# Altium integrated library Analog Devices Data Converters Digital-to-Analog Converters.IntLib: 2231 symbols (part 74 of 181)
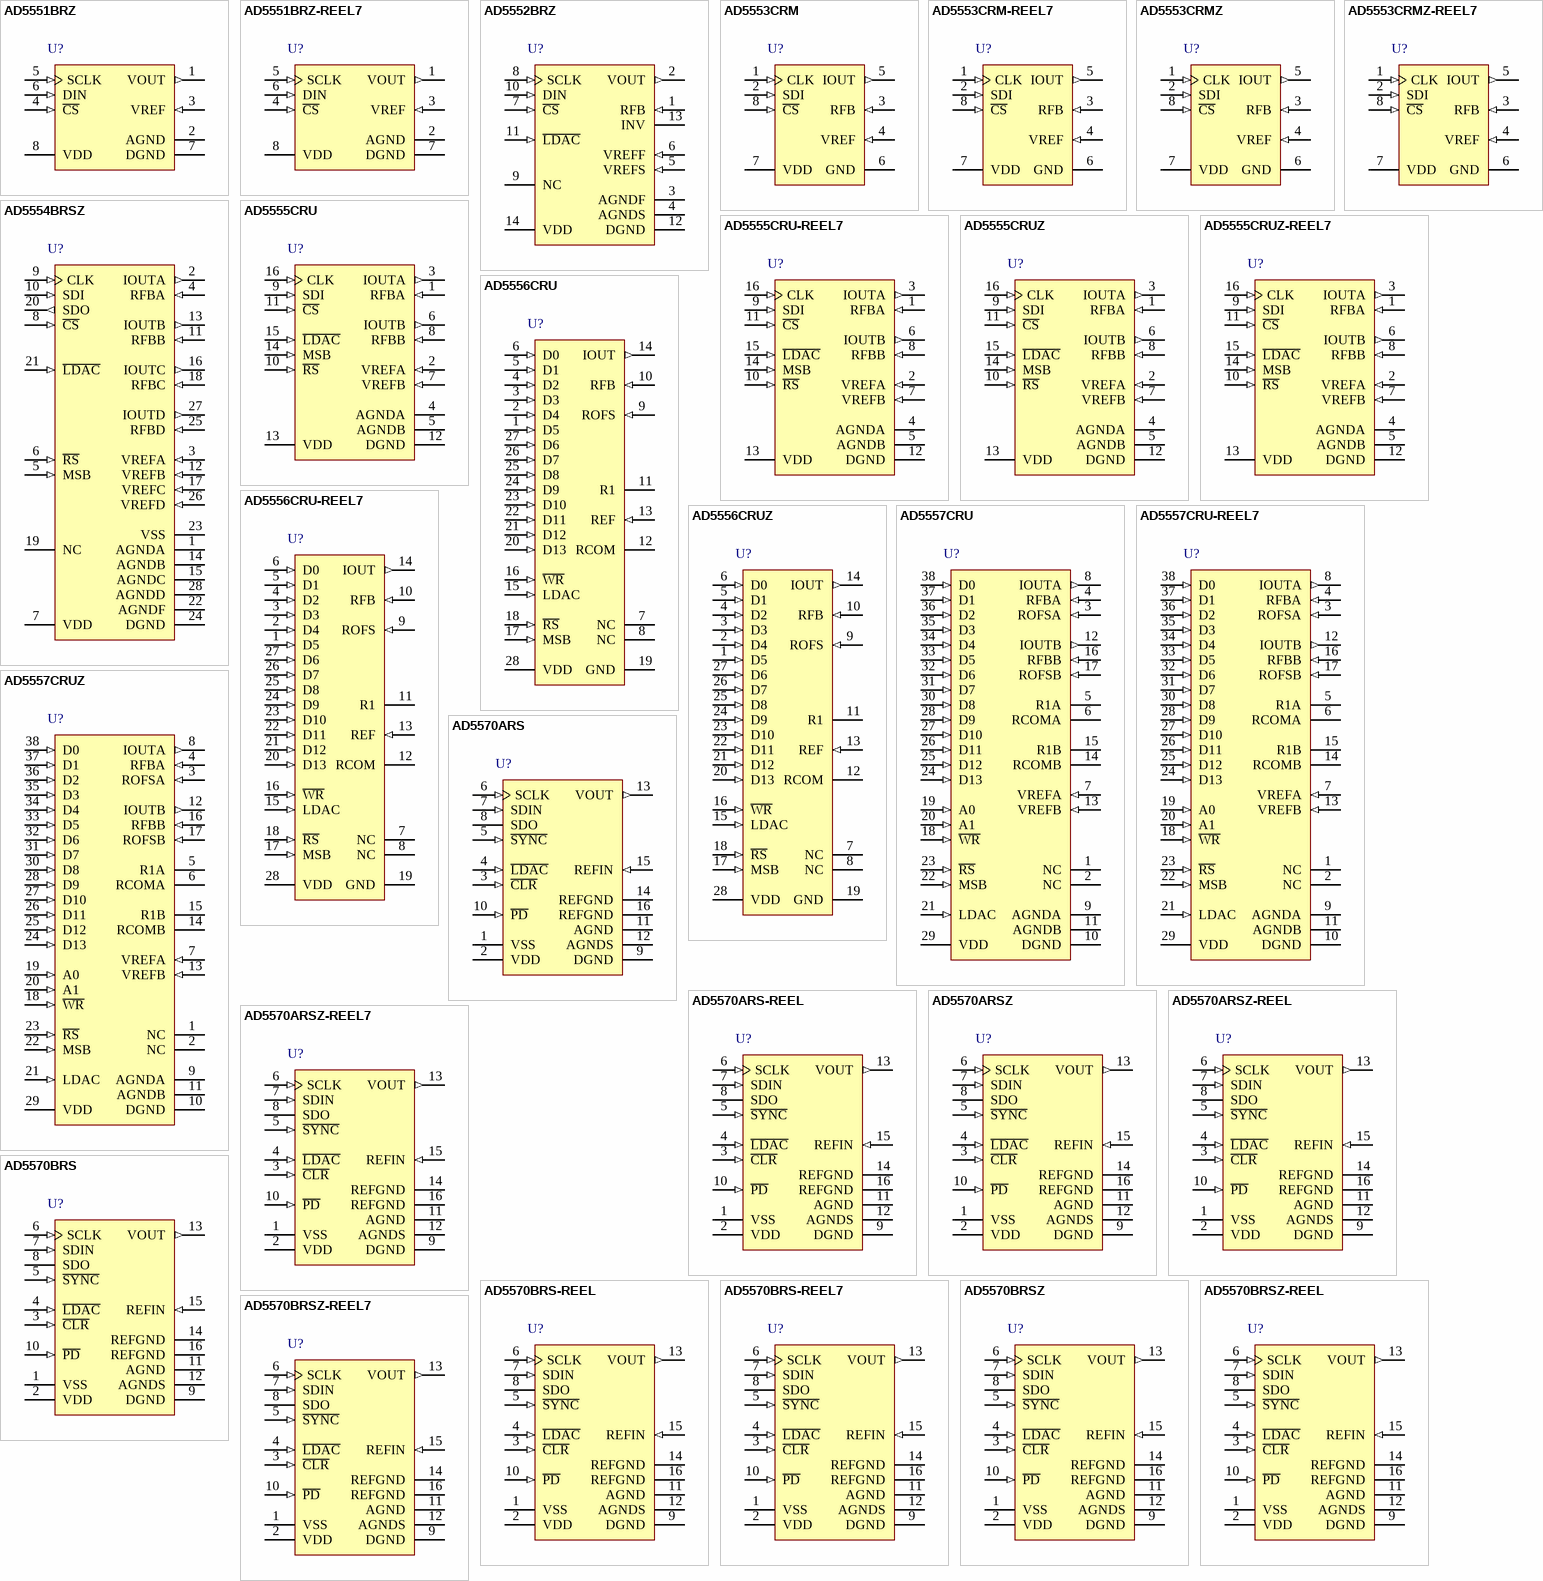
[diagram p187: symbols AD5551BRZ to AD5570BRSZ-REEL7]

## AD5552BRZ
designator U?
Single 14-Bit Digital-to-Analog Converter with Serial Interface, 2.7 to 5.5 V, -40 to +85 degC, R-14, Pb-Free, Tube; Generic Part Number: AD5552; Manufacturer: Analog Devices; PartNumber: AD5552BRZ; # DAC Outputs: 1; Max V+: 5.5V; Op Pwr Diss: 6.05mW; Resolution (Bits): 14; Settling Time: 1µs; Single Supply: Yes; DatasheetVersion: Rev.A; PackageVersion: 060606-A; PackageReference: R-14; PackageDescription: 14-Lead Standard Small Outline Package [SOIC_N]; Supplier 1: Digi-Key; Supplier Part Number 1: AD5552BRZ-ND; Supplier 2: Farnell; Supplier Part Number 2: 2305675; Supplier 3: Newark; Supplier Part Number 3: 84W7402; Supplier 4: Newark; Supplier Part Number 4: 59K4224; Supplier 5: Mouser; Supplier Part Number 5: 584-AD5552BRZ; Packing: Tube; RoHS: Y; Mounting Technology: Surface Mount; Code_JEDEC: MS-012-AB; Code_IPC: SOIC127P600-14; ComponentLink1Description: Manufacturer URL; ComponentLink1URL: http://www.analog.com/en/index.html; ComponentLink2Description: Datasheet; ComponentLink2URL: http://www.analog.com/static/imported-files/data_sheets/AD5551_5552.pdf; ComponentLink3Description: Package Specification; ComponentLink3URL: http://www.analog.com/static/imported-files/packages/PKG_PDF/SOIC_Narrow%20(R)/R_14.pdf; ComponentLink4Description: Product URL; ComponentLink4URL: http://www.analog.com/en/digital-to-analog-converters/da-converters/ad5552/products/product.html
footprint R-14_N (SOIC, 14-Leads, Body 8.7x3.9mm, Pitch 1.27mm, IPC Medium Density)
footprint R-14_L (SOIC, 14-Leads, Body 8.7x3.9mm, Pitch 1.27mm, IPC High Density)
footprint R-14_M (SOIC, 14-Leads, Body 8.7x3.9mm, Pitch 1.27mm, IPC Low Density)
pins: 1 RFB (in) "Feedback Resistor. In bipolar mode, connect this pin to external op amp output.", 2 VOUT (out) "Analog Output Voltage from the DAC.", 3 AGNDF (power) "Ground Reference Point for Analog Circuitry (Force).", 4 AGNDS (power) "Ground Reference Point for Analog Circuitry (Sense).", 5 VREFS (in) "This is the voltage reference input (sense) for the DAC. Connect to external reference ranges from 2 V to VDD.", 6 VREFF (in) "This is the voltage reference input (force) for the DAC. Connect to external reference ranges from 2 V to VDD.", 7 ~{CS} (in) "This is an active low-logic input signal. The chip select signal is used to frame the serial data input.", 8 SCLK (in) "Clock input. Data is clocked into the input register on the rising edge of SCLK. Duty cycle must be between 40%  and 60%.", 9 NC "No Connect.", 10 DIN (in) "Serial Data Input. This device accepts 14-bit words. Data is clocked into the input register on the rising edge of SCLK.", 11 ~{LDAC} (in) "L\D\A\C\ Input. When this input is taken low, the DAC register is simultaneously updated with the contents of the  input register.", 12 DGND (power) "Digital Ground. Ground reference for digital circuitry.", 13 INV "Connected to the internal scaling resistors of the DAC. Connect the INV pin to external op amps inverting input in  bipolar mode.", 14 VDD (power) "Analog Supply Voltage, 2.7 V to 5.5 V +/- 10%."

## AD5553CRM
designator U?
Single 14-Bit Current Output Digital-to-Analog Converter with Serial Interface, -40 to +85 degC, RM-8, Tube; Generic Part Number: AD5553; Manufacturer: Analog Devices; PartNumber: AD5553CRM; # DAC Outputs: 1; Max V+: 5.5V; Op Pwr Diss: 55µW; Resolution (Bits): 14; Settling Time: 500ns; Single Supply: Yes; DatasheetVersion: Rev.F; PackageVersion: Aug-2005; PackageReference: RM-8; PackageDescription: 8-Lead Mini Small Outline Package [MSOP]; Supplier 1: Digi-Key; Supplier Part Number 1: AD5553CRM-ND; Supplier 2: Mouser; Supplier Part Number 2: 584-AD5553CRM; Packing: Tube; RoHS: N; Mounting Technology: Surface Mount; Code_JEDEC: MO-187-AA; ComponentLink1Description: Manufacturer URL; ComponentLink1URL: http://www.analog.com/en/index.html; ComponentLink2Description: Datasheet; ComponentLink2URL: http://www.analog.com/static/imported-files/data_sheets/AD5543_5553.pdf; ComponentLink3Description: Package Specification; ComponentLink3URL: http://www.analog.com/static/imported-files/packages/PKG_PDF/MSOP%28RM%29/RM_8.pdf; ComponentLink4Description: Product URL; ComponentLink4URL: http://www.analog.com/en/digital-to-analog-converters/da-converters/ad5553/products/product.html
footprint RM-8_N (TSOP, 8-Leads, Body 3x3mm, Pitch 0.65mm, IPC Medium Density)
footprint RM-8_L (TSOP, 8-Leads, Body 3x3mm, Pitch 0.65mm, IPC High Density)
footprint RM-8_M (TSOP, 8-Leads, Body 3x3mm, Pitch 0.65mm, IPC Low Density)
pins: 1 CLK (in) "Clock Input. Positive-edge triggered, clocks data into shift register.", 2 SDI (in) "Serial Register Input. Data loads directly into the shift register MSB first. Extra leading bits are ignored.", 3 RFB (in) "Internal Matching Feedback Resistor. This pin connects to an external op amp for voltage output.", 4 VREF (in) "DAC Reference Input Pin. Establishes DAC full-scale voltage. Constant input resistance vs. code.", 5 IOUT (out) "DAC Current Output. This pin connects to the inverting terminal of the external precision I-to-V op amp for voltage output.", 6 GND (power) "Analog and Digital Ground.", 7 VDD (power) "Positive Power Supply Input. Specified range of operation at 5 V +/- 10%.", 8 ~{CS} (in) "Chip Select. Active low digital input. Transfers shift-register data to DAC register on rising edge.See Table 4 for operation."

## AD5553CRM-REEL7
designator U?
Single 14-Bit Current Output Digital-to-Analog Converter with Serial Interface, -40 to +85 degC, RM-8, Reel; Generic Part Number: AD5553; Manufacturer: Analog Devices; PartNumber: AD5553CRM-REEL7; # DAC Outputs: 1; Max V+: 5.5V; Op Pwr Diss: 55µW; Resolution (Bits): 14; Settling Time: 500ns; Single Supply: Yes; DatasheetVersion: Rev.F; PackageVersion: Aug-2005; PackageReference: RM-8; PackageDescription: 8-Lead Mini Small Outline Package [MSOP]; Packing: Reel; RoHS: N; Mounting Technology: Surface Mount; Code_JEDEC: MO-187-AA; ComponentLink1Description: Manufacturer URL; ComponentLink1URL: http://www.analog.com/en/index.html; ComponentLink2Description: Datasheet; ComponentLink2URL: http://www.analog.com/static/imported-files/data_sheets/AD5543_5553.pdf; ComponentLink3Description: Package Specification; ComponentLink3URL: http://www.analog.com/static/imported-files/packages/PKG_PDF/MSOP%28RM%29/RM_8.pdf; ComponentLink4Description: Product URL; ComponentLink4URL: http://www.analog.com/en/digital-to-analog-converters/da-converters/ad5553/products/product.html
footprint RM-8_N (TSOP, 8-Leads, Body 3x3mm, Pitch 0.65mm, IPC Medium Density)
footprint RM-8_L (TSOP, 8-Leads, Body 3x3mm, Pitch 0.65mm, IPC High Density)
footprint RM-8_M (TSOP, 8-Leads, Body 3x3mm, Pitch 0.65mm, IPC Low Density)
pins: 1 CLK (in) "Clock Input. Positive-edge triggered, clocks data into shift register.", 2 SDI (in) "Serial Register Input. Data loads directly into the shift register MSB first. Extra leading bits are ignored.", 3 RFB (in) "Internal Matching Feedback Resistor. This pin connects to an external op amp for voltage output.", 4 VREF (in) "DAC Reference Input Pin. Establishes DAC full-scale voltage. Constant input resistance vs. code.", 5 IOUT (out) "DAC Current Output. This pin connects to the inverting terminal of the external precision I-to-V op amp for voltage output.", 6 GND (power) "Analog and Digital Ground.", 7 VDD (power) "Positive Power Supply Input. Specified range of operation at 5 V +/- 10%.", 8 ~{CS} (in) "Chip Select. Active low digital input. Transfers shift-register data to DAC register on rising edge.See Table 4 for operation."

## AD5553CRMZ
designator U?
Single 14-Bit Current Output Digital-to-Analog Converter with Serial Interface, -40 to +85 degC, RM-8, Pb-Free, Tube; Generic Part Number: AD5553; Manufacturer: Analog Devices; PartNumber: AD5553CRMZ; # DAC Outputs: 1; Max V+: 5.5V; Op Pwr Diss: 55µW; Resolution (Bits): 14; Settling Time: 500ns; Single Supply: Yes; DatasheetVersion: Rev.F; PackageVersion: Aug-2005; PackageReference: RM-8; PackageDescription: 8-Lead Mini Small Outline Package [MSOP]; Supplier 1: Digi-Key; Supplier Part Number 1: AD5553CRMZ-ND; Supplier 2: Newark; Supplier Part Number 2: 59K4225; Supplier 3: Mouser; Supplier Part Number 3: 584-AD5553CRMZ; Packing: Tube; RoHS: Y; Mounting Technology: Surface Mount; Code_JEDEC: MO-187-AA; ComponentLink1Description: Manufacturer URL; ComponentLink1URL: http://www.analog.com/en/index.html; ComponentLink2Description: Datasheet; ComponentLink2URL: http://www.analog.com/static/imported-files/data_sheets/AD5543_5553.pdf; ComponentLink3Description: Package Specification; ComponentLink3URL: http://www.analog.com/static/imported-files/packages/PKG_PDF/MSOP%28RM%29/RM_8.pdf; ComponentLink4Description: Product URL; ComponentLink4URL: http://www.analog.com/en/digital-to-analog-converters/da-converters/ad5553/products/product.html
footprint RM-8_N (TSOP, 8-Leads, Body 3x3mm, Pitch 0.65mm, IPC Medium Density)
footprint RM-8_L (TSOP, 8-Leads, Body 3x3mm, Pitch 0.65mm, IPC High Density)
footprint RM-8_M (TSOP, 8-Leads, Body 3x3mm, Pitch 0.65mm, IPC Low Density)
pins: 1 CLK (in) "Clock Input. Positive-edge triggered, clocks data into shift register.", 2 SDI (in) "Serial Register Input. Data loads directly into the shift register MSB first. Extra leading bits are ignored.", 3 RFB (in) "Internal Matching Feedback Resistor. This pin connects to an external op amp for voltage output.", 4 VREF (in) "DAC Reference Input Pin. Establishes DAC full-scale voltage. Constant input resistance vs. code.", 5 IOUT (out) "DAC Current Output. This pin connects to the inverting terminal of the external precision I-to-V op amp for voltage output.", 6 GND (power) "Analog and Digital Ground.", 7 VDD (power) "Positive Power Supply Input. Specified range of operation at 5 V +/- 10%.", 8 ~{CS} (in) "Chip Select. Active low digital input. Transfers shift-register data to DAC register on rising edge.See Table 4 for operation."

## AD5553CRMZ-REEL7
designator U?
Single 14-Bit Current Output Digital-to-Analog Converter with Serial Interface, -40 to +85 degC, RM-8, Pb-Free, Reel; Generic Part Number: AD5553; Manufacturer: Analog Devices; PartNumber: AD5553CRMZ-REEL7; # DAC Outputs: 1; Max V+: 5.5V; Op Pwr Diss: 55µW; Resolution (Bits): 14; Settling Time: 500ns; Single Supply: Yes; DatasheetVersion: Rev.F; PackageVersion: Aug-2005; PackageReference: RM-8; PackageDescription: 8-Lead Mini Small Outline Package [MSOP]; Supplier 1: Digi-Key; Supplier Part Number 1: AD5553CRMZ-REEL7-ND; Supplier 2: Mouser; Supplier Part Number 2: 584-AD5553CRMZ-R7; Packing: Reel; RoHS: Y; Mounting Technology: Surface Mount; Code_JEDEC: MO-187-AA; ComponentLink1Description: Manufacturer URL; ComponentLink1URL: http://www.analog.com/en/index.html; ComponentLink2Description: Datasheet; ComponentLink2URL: http://www.analog.com/static/imported-files/data_sheets/AD5543_5553.pdf; ComponentLink3Description: Package Specification; ComponentLink3URL: http://www.analog.com/static/imported-files/packages/PKG_PDF/MSOP%28RM%29/RM_8.pdf; ComponentLink4Description: Product URL; ComponentLink4URL: http://www.analog.com/en/digital-to-analog-converters/da-converters/ad5553/products/product.html
footprint RM-8_N (TSOP, 8-Leads, Body 3x3mm, Pitch 0.65mm, IPC Medium Density)
footprint RM-8_L (TSOP, 8-Leads, Body 3x3mm, Pitch 0.65mm, IPC High Density)
footprint RM-8_M (TSOP, 8-Leads, Body 3x3mm, Pitch 0.65mm, IPC Low Density)
pins: 1 CLK (in) "Clock Input. Positive-edge triggered, clocks data into shift register.", 2 SDI (in) "Serial Register Input. Data loads directly into the shift register MSB first. Extra leading bits are ignored.", 3 RFB (in) "Internal Matching Feedback Resistor. This pin connects to an external op amp for voltage output.", 4 VREF (in) "DAC Reference Input Pin. Establishes DAC full-scale voltage. Constant input resistance vs. code.", 5 IOUT (out) "DAC Current Output. This pin connects to the inverting terminal of the external precision I-to-V op amp for voltage output.", 6 GND (power) "Analog and Digital Ground.", 7 VDD (power) "Positive Power Supply Input. Specified range of operation at 5 V +/- 10%.", 8 ~{CS} (in) "Chip Select. Active low digital input. Transfers shift-register data to DAC register on rising edge.See Table 4 for operation."

## AD5554BRSZ
designator U?
Quad 14-Bit Digital-to-Analog Converter with Serial Interface, -40 to +125 degC, RS-28, Pb-Free, Tube; Generic Part Number: AD5554; Manufacturer: Analog Devices; PartNumber: AD5554BRSZ; # DAC Outputs: 4; Max V+: 5.5V; Op Pwr Diss: 1.25mW; Resolution (Bits): 14; Settling Time: 900ns; Single Supply: Yes; DatasheetVersion: Rev.F; PackageVersion: 060106-A; PackageReference: RS-28; PackageDescription: 28-Lead Shrink Small Outline Package [SSOP]; Supplier 1: Digi-Key; Supplier Part Number 1: AD5554BRSZ-ND; Supplier 2: Newark; Supplier Part Number 2: 12M8560; Supplier 3: Mouser; Supplier Part Number 3: 584-AD5554BRSZ; Packing: Tube; RoHS: Y; Mounting Technology: Surface Mount; Code_JEDEC: MO-150-AH; ComponentLink1Description: Manufacturer URL; ComponentLink1URL: http://www.analog.com/en/index.html; ComponentLink2Description: Datasheet; ComponentLink2URL: http://www.analog.com/static/imported-files/data_sheets/AD5544_5554.pdf; ComponentLink3Description: Package Specification; ComponentLink3URL: http://www.analog.com/static/imported-files/packages/32122249223724RS_28.pdf; ComponentLink4Description: Product URL; ComponentLink4URL: http://www.analog.com/en/digital-to-analog-converters/da-converters/ad5554/products/product.html
footprint RS-28_N (SOP, 28-Leads, Body 10.2x5.3mm, Pitch 0.65mm, IPC Medium Density)
footprint RS-28_L (SOP, 28-Leads, Body 10.2x5.3mm, Pitch 0.65mm, IPC High Density)
footprint RS-28_M (SOP, 28-Leads, Body 10.2x5.3mm, Pitch 0.65mm, IPC Low Density)
pins: 1 AGNDA (power) "DAC A Analog Ground.", 2 IOUTA (out) "DAC A Current Output.", 3 VREFA (in) "DAC A Reference Voltage Input Terminal. Establishes DAC A full-scale output voltage. This pin can be tied to the VDD pin.", 4 RFBA (in) "Establish the voltage output for DAC A by connecting to an external amplifier output.", 5 MSB (in) "MSB Bit. Set pin during a reset pulse (R\S\) or at system power-on if tied to ground or VDD.", 6 ~{RS} (in) "Reset Pin, Active Low Input. Input registers and DAC registers are set to all 0s or half-scale code (0x8000 for the AD5544 and 0x2000 for the AD5554), determined by the voltage on the MSB pin. Register data = 0x0000 when MSB (See Datasheet)", 7 VDD (power) "Positive Power Supply Input. Specified range of operation: 5 V +/- 10%.", 8 ~{CS} (in) "Chip Select, Active Low Input. Disables shift register loading when high. Transfers serial register data to the input register when C\S\/L\D\A\C\ returns high. Does not affect L\D\A\C\ operation.", 9 CLK (in) "Clock Input. Positive edge clocks data into the shift register.", 10 SDI (in) "Serial Data Input. Input data loads directly into the shift register.", 11 RFBB (in) "Establish the voltage output for DAC B by connecting to an external amplifier output.", 12 VREFB (in) "DAC B Reference Voltage Input Terminal. Establishes DAC B full-scale output voltage. This pin can be tied to the VDD pin.", 13 IOUTB (out) "DAC B Current Output.", 14 AGNDB (power) "DAC B Analog Ground.", 15 AGNDC (power) "DAC C Analog Ground.", 16 IOUTC (out) "DAC C Current Output.", 17 VREFC (in) "DAC C Reference Voltage Input Terminal. Establishes DAC C full-scale output voltage. This pin can be tied to the VDD pin.", 18 RFBC (in) "Establish the voltage output for DAC C by connecting to an external amplifier output.", 19 NC "No Connect. Leave the pin unconnected.", 20 SDO (out) "Serial Data Output. Input data loads directly into the shift register. Data appears at SDO at 19 clock pulses for the AD5544 and 17 clock pulses for the AD5554 after input at the SDI pin.", 21 ~{LDAC} (in) "Load DAC Register Strobe, Level Sensitive Active Low. Transfers all input register data to DAC registers. Asynchronous active low input. See Table 8 and Table 9 for operation.", 22 AGNDF (power) "High Current Analog Force Ground.", 23 VSS (power) "Negative Bias Power Supply Input. Specified range of operation: -5.5 V to +0.3 V.", 24 DGND (power) "Digital Ground Pin.", 25 RFBD (in) "Establish the voltage output for DAC D by connecting to an external amplifier output.", 26 VREFD (in) "DAC D Reference Voltage Input Terminal. Establishes DAC D full-scale output voltage. This pin can be tied to the VDD pin.", 27 IOUTD (out) "DAC D Current Output.", 28 AGNDD (power) "DAC D Analog Ground."

## AD5555CRU
designator U?
Dual 14-Bit Digital-to-Analog Converter with Serial Interface, -40 to +85 degC, RU-16, Tube; Generic Part Number: AD5555; Manufacturer: Analog Devices; PartNumber: AD5555CRU; # DAC Outputs: 2; Max V+: 5.5V; Op Pwr Diss: 55µW; Resolution (Bits): 14; Settling Time: 500ns; Single Supply: Yes; DatasheetVersion: Rev.E; PackageVersion: Nov-2002; PackageReference: RU-16; PackageDescription: 16-Lead Thin Shrink Small Outline Package [TSSOP]; Supplier 1: Digi-Key; Supplier Part Number 1: AD5555CRU-ND; Supplier 2: Mouser; Supplier Part Number 2: 584-AD5555CRU; Packing: Tube; RoHS: N; Mounting Technology: Surface Mount; Code_JEDEC: MO-153-AB; ComponentLink1Description: Manufacturer URL; ComponentLink1URL: http://www.analog.com/en/index.html; ComponentLink2Description: Datasheet; ComponentLink2URL: http://www.analog.com/static/imported-files/data_sheets/AD5545_5555.pdf; ComponentLink3Description: Package Specification; ComponentLink3URL: http://www.analog.com/static/imported-files/packages/36244347913743854010197452789RU16.pdf; ComponentLink4Description: Product URL; ComponentLink4URL: http://www.analog.com/en/digital-to-analog-converters/da-converters/ad5555/products/product.html
footprint RU-16_N (TSOP, 16-Leads, Body 5x4.4mm, Pitch 0.65mm, IPC Medium Density)
footprint RU-16_L (TSOP, 16-Leads, Body 5x4.4mm, Pitch 0.65mm, IPC High Density)
footprint RU-16_M (TSOP, 16-Leads, Body 5x4.4mm, Pitch 0.65mm, IPC Low Density)
pins: 1 RFBA (in) "Establish voltage output for DAC A by connecting this pin to an external amplifier output.", 2 VREFA (in) "DAC A Reference Voltage Input Terminal. Establishes DAC A full-scale output voltage. This pin can be tied to the VDD pin.", 3 IOUTA (out) "DAC A Current Output.", 4 AGNDA (power) "DAC A Analog Ground.", 5 AGNDB (power) "DAC B Analog Ground.", 6 IOUTB (out) "DAC B Current Output", 7 VREFB (in) "DAC B Reference Voltage Input Terminal. Establishes DAC B full-scale output voltage. This pin can be tied to the VDD pin.", 8 RFBB (in) "Establish voltage output for DAC B by the RFBB pin connecting to an external amplifier output.", 9 SDI (in) "Serial Data Input. Input data loads directly into the shift register.", 10 ~{RS} (in) "Reset Pin, Active Low Input. Input registers and DAC registers are set to all 0s or midscale. Register Data = 0x0000 when MSB = 0. Register Data = 0x8000 for AD5545 and 0x2000 for AD5555 when MSB = 1.", 11 ~{CS} (in) "Chip Select, Active Low Input. Disables shift register loading when high. Transfers serial register data to the input register when C\S\/L\D\A\C\ returns high. This does not affect L\D\A\C\ operation.", 12 DGND (power) "Digital Ground Pin.", 13 VDD (power) "Positive Power Supply Input. Specified range of operation 5 V +/- 10% or 3 V +/- 10%.", 14 MSB (in) "MSB bit sets output to either 0 or midscale during a RESET pulse (R\S\) or at system power-on. Output equals zero scale when MSB = 0 and midscale when MSB = 1. MSB pin can also be tied permanently to ground or VDD.", 15 ~{LDAC} (in) "Load DAC Register Strobe, Level Sensitive Active Low. Transfers all input register data to DAC registers. Asynchronous active low input. See Table 7 and Table 8 for operation.", 16 CLK (in) "Clock Input. Positive edge clocks data into shift register."

## AD5555CRU-REEL7
designator U?
Dual 14-Bit Digital-to-Analog Converter with Serial Interface, -40 to +85 degC, RU-16, Reel; Generic Part Number: AD5555; Manufacturer: Analog Devices; PartNumber: AD5555CRU-REEL7; # DAC Outputs: 2; Max V+: 5.5V; Op Pwr Diss: 55µW; Resolution (Bits): 14; Settling Time: 500ns; Single Supply: Yes; DatasheetVersion: Rev.E; PackageVersion: Nov-2002; PackageReference: RU-16; PackageDescription: 16-Lead Thin Shrink Small Outline Package [TSSOP]; Supplier 1: Digi-Key; Supplier Part Number 1: AD5555CRU-REEL7-ND; Supplier 2: Newark; Supplier Part Number 2: 82H2862; Supplier 3: Mouser; Supplier Part Number 3: 584-AD5555CRU-R7; Packing: Reel; RoHS: N; Mounting Technology: Surface Mount; Code_JEDEC: MO-153-AB; ComponentLink1Description: Manufacturer URL; ComponentLink1URL: http://www.analog.com/en/index.html; ComponentLink2Description: Datasheet; ComponentLink2URL: http://www.analog.com/static/imported-files/data_sheets/AD5545_5555.pdf; ComponentLink3Description: Package Specification; ComponentLink3URL: http://www.analog.com/static/imported-files/packages/36244347913743854010197452789RU16.pdf; ComponentLink4Description: Product URL; ComponentLink4URL: http://www.analog.com/en/digital-to-analog-converters/da-converters/ad5555/products/product.html
footprint RU-16_N (TSOP, 16-Leads, Body 5x4.4mm, Pitch 0.65mm, IPC Medium Density)
footprint RU-16_L (TSOP, 16-Leads, Body 5x4.4mm, Pitch 0.65mm, IPC High Density)
footprint RU-16_M (TSOP, 16-Leads, Body 5x4.4mm, Pitch 0.65mm, IPC Low Density)
pins: 1 RFBA (in) "Establish voltage output for DAC A by connecting this pin to an external amplifier output.", 2 VREFA (in) "DAC A Reference Voltage Input Terminal. Establishes DAC A full-scale output voltage. This pin can be tied to the VDD pin.", 3 IOUTA (out) "DAC A Current Output.", 4 AGNDA (power) "DAC A Analog Ground.", 5 AGNDB (power) "DAC B Analog Ground.", 6 IOUTB (out) "DAC B Current Output", 7 VREFB (in) "DAC B Reference Voltage Input Terminal. Establishes DAC B full-scale output voltage. This pin can be tied to the VDD pin.", 8 RFBB (in) "Establish voltage output for DAC B by the RFBB pin connecting to an external amplifier output.", 9 SDI (in) "Serial Data Input. Input data loads directly into the shift register.", 10 ~{RS} (in) "Reset Pin, Active Low Input. Input registers and DAC registers are set to all 0s or midscale. Register Data = 0x0000 when MSB = 0. Register Data = 0x8000 for AD5545 and 0x2000 for AD5555 when MSB = 1.", 11 ~{CS} (in) "Chip Select, Active Low Input. Disables shift register loading when high. Transfers serial register data to the input register when C\S\/L\D\A\C\ returns high. This does not affect L\D\A\C\ operation.", 12 DGND (power) "Digital Ground Pin.", 13 VDD (power) "Positive Power Supply Input. Specified range of operation 5 V +/- 10% or 3 V +/- 10%.", 14 MSB (in) "MSB bit sets output to either 0 or midscale during a RESET pulse (R\S\) or at system power-on. Output equals zero scale when MSB = 0 and midscale when MSB = 1. MSB pin can also be tied permanently to ground or VDD.", 15 ~{LDAC} (in) "Load DAC Register Strobe, Level Sensitive Active Low. Transfers all input register data to DAC registers. Asynchronous active low input. See Table 7 and Table 8 for operation.", 16 CLK (in) "Clock Input. Positive edge clocks data into shift register."

## AD5555CRUZ
designator U?
Dual 14-Bit Digital-to-Analog Converter with Serial Interface, -40 to +85 degC, RU-16, Pb-Free, Tube; Generic Part Number: AD5555; Manufacturer: Analog Devices; PartNumber: AD5555CRUZ; # DAC Outputs: 2; Max V+: 5.5V; Op Pwr Diss: 55µW; Resolution (Bits): 14; Settling Time: 500ns; Single Supply: Yes; DatasheetVersion: Rev.E; PackageVersion: Nov-2002; PackageReference: RU-16; PackageDescription: 16-Lead Thin Shrink Small Outline Package [TSSOP]; Supplier 1: Digi-Key; Supplier Part Number 1: AD5555CRUZ-ND; Supplier 2: Newark; Supplier Part Number 2: 59K4227; Supplier 3: Mouser; Supplier Part Number 3: 584-AD5555CRUZ; Packing: Tube; RoHS: Y; Mounting Technology: Surface Mount; Code_JEDEC: MO-153-AB; ComponentLink1Description: Manufacturer URL; ComponentLink1URL: http://www.analog.com/en/index.html; ComponentLink2Description: Datasheet; ComponentLink2URL: http://www.analog.com/static/imported-files/data_sheets/AD5545_5555.pdf; ComponentLink3Description: Package Specification; ComponentLink3URL: http://www.analog.com/static/imported-files/packages/36244347913743854010197452789RU16.pdf; ComponentLink4Description: Product URL; ComponentLink4URL: http://www.analog.com/en/digital-to-analog-converters/da-converters/ad5555/products/product.html
footprint RU-16_N (TSOP, 16-Leads, Body 5x4.4mm, Pitch 0.65mm, IPC Medium Density)
footprint RU-16_L (TSOP, 16-Leads, Body 5x4.4mm, Pitch 0.65mm, IPC High Density)
footprint RU-16_M (TSOP, 16-Leads, Body 5x4.4mm, Pitch 0.65mm, IPC Low Density)
pins: 1 RFBA (in) "Establish voltage output for DAC A by connecting this pin to an external amplifier output.", 2 VREFA (in) "DAC A Reference Voltage Input Terminal. Establishes DAC A full-scale output voltage. This pin can be tied to the VDD pin.", 3 IOUTA (out) "DAC A Current Output.", 4 AGNDA (power) "DAC A Analog Ground.", 5 AGNDB (power) "DAC B Analog Ground.", 6 IOUTB (out) "DAC B Current Output", 7 VREFB (in) "DAC B Reference Voltage Input Terminal. Establishes DAC B full-scale output voltage. This pin can be tied to the VDD pin.", 8 RFBB (in) "Establish voltage output for DAC B by the RFBB pin connecting to an external amplifier output.", 9 SDI (in) "Serial Data Input. Input data loads directly into the shift register.", 10 ~{RS} (in) "Reset Pin, Active Low Input. Input registers and DAC registers are set to all 0s or midscale. Register Data = 0x0000 when MSB = 0. Register Data = 0x8000 for AD5545 and 0x2000 for AD5555 when MSB = 1.", 11 ~{CS} (in) "Chip Select, Active Low Input. Disables shift register loading when high. Transfers serial register data to the input register when C\S\/L\D\A\C\ returns high. This does not affect L\D\A\C\ operation.", 12 DGND (power) "Digital Ground Pin.", 13 VDD (power) "Positive Power Supply Input. Specified range of operation 5 V +/- 10% or 3 V +/- 10%.", 14 MSB (in) "MSB bit sets output to either 0 or midscale during a RESET pulse (R\S\) or at system power-on. Output equals zero scale when MSB = 0 and midscale when MSB = 1. MSB pin can also be tied permanently to ground or VDD.", 15 ~{LDAC} (in) "Load DAC Register Strobe, Level Sensitive Active Low. Transfers all input register data to DAC registers. Asynchronous active low input. See Table 7 and Table 8 for operation.", 16 CLK (in) "Clock Input. Positive edge clocks data into shift register."

## AD5555CRUZ-REEL7
designator U?
Dual 14-Bit Digital-to-Analog Converter with Serial Interface, -40 to +85 degC, RU-16, Pb-Free, Reel; Generic Part Number: AD5555; Manufacturer: Analog Devices; PartNumber: AD5555CRUZ-REEL7; # DAC Outputs: 2; Max V+: 5.5V; Op Pwr Diss: 55µW; Resolution (Bits): 14; Settling Time: 500ns; Single Supply: Yes; DatasheetVersion: Rev.E; PackageVersion: Nov-2002; PackageReference: RU-16; PackageDescription: 16-Lead Thin Shrink Small Outline Package [TSSOP]; Supplier 1: Digi-Key; Supplier Part Number 1: AD5555CRUZ-REEL7-ND; Supplier 2: Mouser; Supplier Part Number 2: 584-AD5555CRUZ-R7; Packing: Reel; RoHS: Y; Mounting Technology: Surface Mount; Code_JEDEC: MO-153-AB; ComponentLink1Description: Manufacturer URL; ComponentLink1URL: http://www.analog.com/en/index.html; ComponentLink2Description: Datasheet; ComponentLink2URL: http://www.analog.com/static/imported-files/data_sheets/AD5545_5555.pdf; ComponentLink3Description: Package Specification; ComponentLink3URL: http://www.analog.com/static/imported-files/packages/36244347913743854010197452789RU16.pdf; ComponentLink4Description: Product URL; ComponentLink4URL: http://www.analog.com/en/digital-to-analog-converters/da-converters/ad5555/products/product.html
footprint RU-16_N (TSOP, 16-Leads, Body 5x4.4mm, Pitch 0.65mm, IPC Medium Density)
footprint RU-16_L (TSOP, 16-Leads, Body 5x4.4mm, Pitch 0.65mm, IPC High Density)
footprint RU-16_M (TSOP, 16-Leads, Body 5x4.4mm, Pitch 0.65mm, IPC Low Density)
pins: 1 RFBA (in) "Establish voltage output for DAC A by connecting this pin to an external amplifier output.", 2 VREFA (in) "DAC A Reference Voltage Input Terminal. Establishes DAC A full-scale output voltage. This pin can be tied to the VDD pin.", 3 IOUTA (out) "DAC A Current Output.", 4 AGNDA (power) "DAC A Analog Ground.", 5 AGNDB (power) "DAC B Analog Ground.", 6 IOUTB (out) "DAC B Current Output", 7 VREFB (in) "DAC B Reference Voltage Input Terminal. Establishes DAC B full-scale output voltage. This pin can be tied to the VDD pin.", 8 RFBB (in) "Establish voltage output for DAC B by the RFBB pin connecting to an external amplifier output.", 9 SDI (in) "Serial Data Input. Input data loads directly into the shift register.", 10 ~{RS} (in) "Reset Pin, Active Low Input. Input registers and DAC registers are set to all 0s or midscale. Register Data = 0x0000 when MSB = 0. Register Data = 0x8000 for AD5545 and 0x2000 for AD5555 when MSB = 1.", 11 ~{CS} (in) "Chip Select, Active Low Input. Disables shift register loading when high. Transfers serial register data to the input register when C\S\/L\D\A\C\ returns high. This does not affect L\D\A\C\ operation.", 12 DGND (power) "Digital Ground Pin.", 13 VDD (power) "Positive Power Supply Input. Specified range of operation 5 V +/- 10% or 3 V +/- 10%.", 14 MSB (in) "MSB bit sets output to either 0 or midscale during a RESET pulse (R\S\) or at system power-on. Output equals zero scale when MSB = 0 and midscale when MSB = 1. MSB pin can also be tied permanently to ground or VDD.", 15 ~{LDAC} (in) "Load DAC Register Strobe, Level Sensitive Active Low. Transfers all input register data to DAC registers. Asynchronous active low input. See Table 7 and Table 8 for operation.", 16 CLK (in) "Clock Input. Positive edge clocks data into shift register."

## AD5556CRU
designator U?
Single 14-Bit Multiplying Current Output Digital-to-Analog Converter with Parallel Interface and Four-Quadrant Resistors, -40 to +125 degC, RU-28, Tube; Generic Part Number: AD5556; Manufacturer: Analog Devices; PartNumber: AD5556CRU; # DAC Outputs: 1; Max V+: 5.5V; Op Pwr Diss: 55µW; Resolution (Bits): 14; Settling Time: 500ns; Single Supply: Yes; DatasheetVersion: Rev.D; PackageVersion: 2005; PackageReference: RU-28; PackageDescription: 28-Lead Thin Shrink Small Outline Package [TSSOP]; Supplier 1: Digi-Key; Supplier Part Number 1: AD5556CRU-ND; Supplier 2: Mouser; Supplier Part Number 2: 584-AD5556CRU; Packing: Tube; RoHS: N; Mounting Technology: Surface Mount; Code_JEDEC: MO-153-AE; ComponentLink1Description: Manufacturer URL; ComponentLink1URL: http://www.analog.com/en/index.html; ComponentLink2Description: Datasheet; ComponentLink2URL: http://www.analog.com/static/imported-files/data_sheets/AD5546_5556.pdf; ComponentLink3Description: Package Specification; ComponentLink3URL: http://www.analog.com/static/imported-files/packages/249854663RU_28.pdf; ComponentLink4Description: Product URL; ComponentLink4URL: http://www.analog.com/en/digital-to-analog-converters/da-converters/ad5556/products/product.html; ComponentLink5Description: Reference Design URL; ComponentLink5URL: http://www.analog.com/en/digital-to-analog-converters/da-converters/ad5556/products/product.html#prod_cross_sell
footprint RU-28_N (TSOP, 28-Leads, Body 9.7x4.4mm, Pitch 0.65mm, IPC Medium Density)
footprint RU-28_L (TSOP, 28-Leads, Body 9.7x4.4mm, Pitch 0.65mm, IPC High Density)
footprint RU-28_M (TSOP, 28-Leads, Body 9.7x4.4mm, Pitch 0.65mm, IPC Low Density)
pins: 1 D5 (in) "Digital Input Data Bits D5. The signal level must be =< VDD+0.3 V.", 2 D4 (in) "Digital Input Data Bits D4. The signal level must be =< VDD+0.3 V.", 3 D3 (in) "Digital Input Data Bits D3. The signal level must be =< VDD+0.3 V.", 4 D2 (in) "Digital Input Data Bits D2. The signal level must be =< VDD+0.3 V.", 5 D1 (in) "Digital Input Data Bits D1. The signal level must be =< VDD+0.3 V.", 6 D0 (in) "Digital Input Data Bits D0. The signal level must be =< VDD+0.3 V.", 7 NC "No Connection. The user should not connect anything other than dummy pads on these terminals.", 8 NC "No Connection. The user should not connect anything other than dummy pads on these terminals.", 9 ROFS (in) "Bipolar Offset Resistor. Accepts up to +/-18 V. In two-quadrant mode, ties to RFB. In four-quadrant mode, ties to R1 and the external reference.", 10 RFB (in) "Internal Matching Feedback Resistor. Connects to the output of an external op amp for I-V conversion.", 11 R1 "Four-Quadrant Resistor R1. In two-quadrant mode, shorts to the REF pin. In four-quadrant mode, ties to ROFS.", 12 RCOM "Center Tap Point of Two Four-Quadrant Resistors, R1 and R2. In four-quadrant mode, ties to the inverting node of the reference amplifier. In two-quadrant mode, shorts to the REF pin.", 13 REF (in) "DAC Reference Input in Two-Quadrant Mode and R2 Terminal in Four-Quadrant Mode. In two-quadrant mode, this pin is the reference input with constant input resistance vs. code. In four-quadrant mode, this pin is driven by the (See Datasheet)", 14 IOUT (out) "DAC Current Output. Connects to the inverting node of an external op amp for I-V conversion.", 15 LDAC (in) "Digital Input Load DAC Control. The signal level must be =< VDD + 0.3 V.", 16 ~{WR} (in) "Write Control Digital Input in Active Low. Transfers shift-register data to the DAC register on the rising edge. The signal level must be =< VDD + 0.3 V.", 17 MSB (in) "Power On Reset State. MSB = 0 resets at zero scale; MSB = 1 resets at midscale. The signal level must be =< VDD + 0.3 V.", 18 ~{RS} (in) "Reset in Active Low. Resets to zero scale if MSB = 0 and resets to midscale if MSB = 1. The signal level must be =< VDD + 0.3 V.", 19 GND (power) "Analog and Digital Grounds.", 20 D13 (in) "Digital Input Data Bits D13. The signal level must be =< VDD + 0.3 V.", 21 D12 (in) "Digital Input Data Bits D12. The signal level must be =< VDD + 0.3 V.", 22 D11 (in) "Digital Input Data Bits D11. The signal level must be =< VDD + 0.3 V.", 23 D10 (in) "Digital Input Data Bits D10. The signal level must be =< VDD + 0.3 V.", 24 D9 (in) "Digital Input Data Bits D9. The signal level must be =< VDD + 0.3 V.", 25 D8 (in) "Digital Input Data Bits D8. The signal level must be =< VDD + 0.3 V.", 26 D7 (in) "Digital Input Data Bits D7. The signal level must be =< VDD + 0.3 V.", 27 D6 (in) "Digital Input Data Bits D6. The signal level must be =< VDD + 0.3 V.", 28 VDD (power) "Positive Power Supply Input. Specified range of operation: 2.7 V to 5.5 V."

## AD5556CRU-REEL7
designator U?
Single 14-Bit Multiplying Current Output Digital-to-Analog Converter with Parallel Interface and Four-Quadrant Resistors, -40 to +125 degC, RU-28, Reel; Generic Part Number: AD5556; Manufacturer: Analog Devices; PartNumber: AD5556CRU-REEL7; # DAC Outputs: 1; Max V+: 5.5V; Op Pwr Diss: 55µW; Resolution (Bits): 14; Settling Time: 500ns; Single Supply: Yes; DatasheetVersion: Rev.D; PackageVersion: 2005; PackageReference: RU-28; PackageDescription: 28-Lead Thin Shrink Small Outline Package [TSSOP]; Supplier 1: Digi-Key; Supplier Part Number 1: AD5556CRU-REEL7-ND; Supplier 2: Mouser; Supplier Part Number 2: 584-AD5556CRU-R7; Packing: Reel; RoHS: N; Mounting Technology: Surface Mount; Code_JEDEC: MO-153-AE; ComponentLink1Description: Manufacturer URL; ComponentLink1URL: http://www.analog.com/en/index.html; ComponentLink2Description: Datasheet; ComponentLink2URL: http://www.analog.com/static/imported-files/data_sheets/AD5546_5556.pdf; ComponentLink3Description: Package Specification; ComponentLink3URL: http://www.analog.com/static/imported-files/packages/249854663RU_28.pdf; ComponentLink4Description: Product URL; ComponentLink4URL: http://www.analog.com/en/digital-to-analog-converters/da-converters/ad5556/products/product.html; ComponentLink5Description: Reference Design URL; ComponentLink5URL: http://www.analog.com/en/digital-to-analog-converters/da-converters/ad5556/products/product.html#prod_cross_sell
footprint RU-28_N (TSOP, 28-Leads, Body 9.7x4.4mm, Pitch 0.65mm, IPC Medium Density)
footprint RU-28_L (TSOP, 28-Leads, Body 9.7x4.4mm, Pitch 0.65mm, IPC High Density)
footprint RU-28_M (TSOP, 28-Leads, Body 9.7x4.4mm, Pitch 0.65mm, IPC Low Density)
pins: 1 D5 (in) "Digital Input Data Bits D5. The signal level must be =< VDD+0.3 V.", 2 D4 (in) "Digital Input Data Bits D4. The signal level must be =< VDD+0.3 V.", 3 D3 (in) "Digital Input Data Bits D3. The signal level must be =< VDD+0.3 V.", 4 D2 (in) "Digital Input Data Bits D2. The signal level must be =< VDD+0.3 V.", 5 D1 (in) "Digital Input Data Bits D1. The signal level must be =< VDD+0.3 V.", 6 D0 (in) "Digital Input Data Bits D0. The signal level must be =< VDD+0.3 V.", 7 NC "No Connection. The user should not connect anything other than dummy pads on these terminals.", 8 NC "No Connection. The user should not connect anything other than dummy pads on these terminals.", 9 ROFS (in) "Bipolar Offset Resistor. Accepts up to +/-18 V. In two-quadrant mode, ties to RFB. In four-quadrant mode, ties to R1 and the external reference.", 10 RFB (in) "Internal Matching Feedback Resistor. Connects to the output of an external op amp for I-V conversion.", 11 R1 "Four-Quadrant Resistor R1. In two-quadrant mode, shorts to the REF pin. In four-quadrant mode, ties to ROFS.", 12 RCOM "Center Tap Point of Two Four-Quadrant Resistors, R1 and R2. In four-quadrant mode, ties to the inverting node of the reference amplifier. In two-quadrant mode, shorts to the REF pin.", 13 REF (in) "DAC Reference Input in Two-Quadrant Mode and R2 Terminal in Four-Quadrant Mode. In two-quadrant mode, this pin is the reference input with constant input resistance vs. code. In four-quadrant mode, this pin is driven by the (See Datasheet)", 14 IOUT (out) "DAC Current Output. Connects to the inverting node of an external op amp for I-V conversion.", 15 LDAC (in) "Digital Input Load DAC Control. The signal level must be =< VDD + 0.3 V.", 16 ~{WR} (in) "Write Control Digital Input in Active Low. Transfers shift-register data to the DAC register on the rising edge. The signal level must be =< VDD + 0.3 V.", 17 MSB (in) "Power On Reset State. MSB = 0 resets at zero scale; MSB = 1 resets at midscale. The signal level must be =< VDD + 0.3 V.", 18 ~{RS} (in) "Reset in Active Low. Resets to zero scale if MSB = 0 and resets to midscale if MSB = 1. The signal level must be =< VDD + 0.3 V.", 19 GND (power) "Analog and Digital Grounds.", 20 D13 (in) "Digital Input Data Bits D13. The signal level must be =< VDD + 0.3 V.", 21 D12 (in) "Digital Input Data Bits D12. The signal level must be =< VDD + 0.3 V.", 22 D11 (in) "Digital Input Data Bits D11. The signal level must be =< VDD + 0.3 V.", 23 D10 (in) "Digital Input Data Bits D10. The signal level must be =< VDD + 0.3 V.", 24 D9 (in) "Digital Input Data Bits D9. The signal level must be =< VDD + 0.3 V.", 25 D8 (in) "Digital Input Data Bits D8. The signal level must be =< VDD + 0.3 V.", 26 D7 (in) "Digital Input Data Bits D7. The signal level must be =< VDD + 0.3 V.", 27 D6 (in) "Digital Input Data Bits D6. The signal level must be =< VDD + 0.3 V.", 28 VDD (power) "Positive Power Supply Input. Specified range of operation: 2.7 V to 5.5 V."

## AD5556CRUZ
designator U?
Single 14-Bit Multiplying Current Output Digital-to-Analog Converter with Parallel Interface and Four-Quadrant Resistors, -40 to +125 degC, RU-28, Pb-Free, Tube; Generic Part Number: AD5556; Manufacturer: Analog Devices; PartNumber: AD5556CRUZ; # DAC Outputs: 1; Max V+: 5.5V; Op Pwr Diss: 55µW; Resolution (Bits): 14; Settling Time: 500ns; Single Supply: Yes; DatasheetVersion: Rev.D; PackageVersion: 2005; PackageReference: RU-28; PackageDescription: 28-Lead Thin Shrink Small Outline Package [TSSOP]; Supplier 1: Digi-Key; Supplier Part Number 1: AD5556CRUZ-ND; Supplier 2: Farnell; Supplier Part Number 2: 2192158; Supplier 3: Newark; Supplier Part Number 3: 12M8561; Supplier 4: Mouser; Supplier Part Number 4: 584-AD5556CRUZ; Packing: Tube; RoHS: Y; Mounting Technology: Surface Mount; Code_JEDEC: MO-153-AE; ComponentLink1Description: Manufacturer URL; ComponentLink1URL: http://www.analog.com/en/index.html; ComponentLink2Description: Datasheet; ComponentLink2URL: http://www.analog.com/static/imported-files/data_sheets/AD5546_5556.pdf; ComponentLink3Description: Package Specification; ComponentLink3URL: http://www.analog.com/static/imported-files/packages/249854663RU_28.pdf; ComponentLink4Description: Product URL; ComponentLink4URL: http://www.analog.com/en/digital-to-analog-converters/da-converters/ad5556/products/product.html; ComponentLink5Description: Reference Design URL; ComponentLink5URL: http://www.analog.com/en/digital-to-analog-converters/da-converters/ad5556/products/product.html#prod_cross_sell
footprint RU-28_N (TSOP, 28-Leads, Body 9.7x4.4mm, Pitch 0.65mm, IPC Medium Density)
footprint RU-28_L (TSOP, 28-Leads, Body 9.7x4.4mm, Pitch 0.65mm, IPC High Density)
footprint RU-28_M (TSOP, 28-Leads, Body 9.7x4.4mm, Pitch 0.65mm, IPC Low Density)
pins: 1 D5 (in) "Digital Input Data Bits D5. The signal level must be =< VDD+0.3 V.", 2 D4 (in) "Digital Input Data Bits D4. The signal level must be =< VDD+0.3 V.", 3 D3 (in) "Digital Input Data Bits D3. The signal level must be =< VDD+0.3 V.", 4 D2 (in) "Digital Input Data Bits D2. The signal level must be =< VDD+0.3 V.", 5 D1 (in) "Digital Input Data Bits D1. The signal level must be =< VDD+0.3 V.", 6 D0 (in) "Digital Input Data Bits D0. The signal level must be =< VDD+0.3 V.", 7 NC "No Connection. The user should not connect anything other than dummy pads on these terminals.", 8 NC "No Connection. The user should not connect anything other than dummy pads on these terminals.", 9 ROFS (in) "Bipolar Offset Resistor. Accepts up to +/-18 V. In two-quadrant mode, ties to RFB. In four-quadrant mode, ties to R1 and the external reference.", 10 RFB (in) "Internal Matching Feedback Resistor. Connects to the output of an external op amp for I-V conversion.", 11 R1 "Four-Quadrant Resistor R1. In two-quadrant mode, shorts to the REF pin. In four-quadrant mode, ties to ROFS.", 12 RCOM "Center Tap Point of Two Four-Quadrant Resistors, R1 and R2. In four-quadrant mode, ties to the inverting node of the reference amplifier. In two-quadrant mode, shorts to the REF pin.", 13 REF (in) "DAC Reference Input in Two-Quadrant Mode and R2 Terminal in Four-Quadrant Mode. In two-quadrant mode, this pin is the reference input with constant input resistance vs. code. In four-quadrant mode, this pin is driven by the (See Datasheet)", 14 IOUT (out) "DAC Current Output. Connects to the inverting node of an external op amp for I-V conversion.", 15 LDAC (in) "Digital Input Load DAC Control. The signal level must be =< VDD + 0.3 V.", 16 ~{WR} (in) "Write Control Digital Input in Active Low. Transfers shift-register data to the DAC register on the rising edge. The signal level must be =< VDD + 0.3 V.", 17 MSB (in) "Power On Reset State. MSB = 0 resets at zero scale; MSB = 1 resets at midscale. The signal level must be =< VDD + 0.3 V.", 18 ~{RS} (in) "Reset in Active Low. Resets to zero scale if MSB = 0 and resets to midscale if MSB = 1. The signal level must be =< VDD + 0.3 V.", 19 GND (power) "Analog and Digital Grounds.", 20 D13 (in) "Digital Input Data Bits D13. The signal level must be =< VDD + 0.3 V.", 21 D12 (in) "Digital Input Data Bits D12. The signal level must be =< VDD + 0.3 V.", 22 D11 (in) "Digital Input Data Bits D11. The signal level must be =< VDD + 0.3 V.", 23 D10 (in) "Digital Input Data Bits D10. The signal level must be =< VDD + 0.3 V.", 24 D9 (in) "Digital Input Data Bits D9. The signal level must be =< VDD + 0.3 V.", 25 D8 (in) "Digital Input Data Bits D8. The signal level must be =< VDD + 0.3 V.", 26 D7 (in) "Digital Input Data Bits D7. The signal level must be =< VDD + 0.3 V.", 27 D6 (in) "Digital Input Data Bits D6. The signal level must be =< VDD + 0.3 V.", 28 VDD (power) "Positive Power Supply Input. Specified range of operation: 2.7 V to 5.5 V."

## AD5557CRU
designator U?
Dual 14-Bit Multiplying Dual Current Output Digital-to-Analog Converter with Parallel Interface, -40 to +125 degC, RU-38, Tube; Generic Part Number: AD5557; Manufacturer: Analog Devices; PartNumber: AD5557CRU; # DAC Outputs: 2; Max V+: 5.5V; Op Pwr Diss: 55µW; Resolution (Bits): 14; Settling Time: 500ns; Single Supply: Yes; DatasheetVersion: Rev.C; PackageVersion: Mar-2003; PackageReference: RU-38; PackageDescription: 38-Lead Thin Shrink Small Outline Package [TSSOP]; Supplier 1: Digi-Key; Supplier Part Number 1: AD5557CRU-ND; Supplier 2: Mouser; Supplier Part Number 2: 584-AD5557CRU; Packing: Tube; RoHS: N; Mounting Technology: Surface Mount; Code_JEDEC: MS-153BD-1; ComponentLink1Description: Manufacturer URL; ComponentLink1URL: http://www.analog.com/en/index.html; ComponentLink2Description: Datasheet; ComponentLink2URL: http://www.analog.com/static/imported-files/data_sheets/AD5547_5557.pdf; ComponentLink3Description: Package Specification; ComponentLink3URL: http://www.analog.com/static/imported-files/packages/36817415413609854197792024125RU38.pdf; ComponentLink4Description: Product URL; ComponentLink4URL: http://www.analog.com/en/digital-to-analog-converters/da-converters/ad5557/products/product.html; ComponentLink5Description: Reference Design URL; ComponentLink5URL: http://www.analog.com/en/digital-to-analog-converters/da-converters/ad5557/products/product.html#prod_cross_sell
footprint RU-38_N (TSSOP, 38-Leads, Body 9.7x4.4mm, Pitch 0.5mm, IPC Medium Density)
footprint RU-38_L (TSSOP, 38-Leads, Body 9.7x4.4mm, Pitch 0.5mm, IPC High Density)
footprint RU-38_M (TSSOP, 38-Leads, Body 9.7x4.4mm, Pitch 0.5mm, IPC Low Density)
pins: 1 NC "No Connection. Do not connect anything other than the dummy pads to these pins.", 2 NC "No Connection. Do not connect anything other than the dummy pads to these pins.", 3 ROFSA (in) "Bipolar Offset Resistor A. Accepts up to +/-18 V. In 2-quadrant mode, ROFSA ties to RFBA. In 4-quadrant mode, ROFSA ties to R1A and the external reference.", 4 RFBA (in) "Internal Matching Feedback Resistor A. Connects to the external op amp for I-to-V conversion.", 5 R1A "4-Quandrant Resistor. In 2-quadrant mode, R1A shorts to the VREFA pin. In 4-quadrant mode, R1A ties to ROFSA. Do  not connect when operating in unipolar mode.", 6 RCOMA "Center Tap Point of the Two 4-Quadrant Resistors, R1A and R2A. In 4-quadrant mode, RCOMA ties to the inverting  node of the reference amplifier. In 2-quadrant mode, RCOMA shorts to the VREFA pin. Do not connect if operating  (See Datasheet)", 7 VREFA (in) "DAC A Reference Input in 2-Quadrant Mode, R2 Terminal in 4-Quadrant Mode. In 2-quadrant mode, VREFA is the  reference input with constant input resistance vs. code. In 4-quadrant mode, VREFA is driven by the external  (See Datasheet)", 8 IOUTA (out) "DAC A Current Output. Connects to the inverting terminal of external precision I-to-V op amp for voltage  output.", 9 AGNDA (power) "DAC A Analog Ground.", 10 DGND (power) "Digital Ground.", 11 AGNDB (power) "DAC B Analog Ground.", 12 IOUTB (out) "DAC B Current Output. Connects to inverting terminal of external precision I-to-V op amp for voltage output.", 13 VREFB (in) "DAC B Reference Input Pin. Establishes DAC full-scale voltage. Constant input resistance vs. code. If configured  with an external op amp for 4-quadrant multiplying, VREFB becomes -VREF.", 14 RCOMB "Center Tap Point of the Two 4-Quadrant Resistors, R1B and R2B. In 4-quadrant mode, RCOMB ties to the inverting  node of the reference amplifier. In 2-quadrant mode, RCOMB shorts to the VREFB pin. Do not connect if operating  (See Datasheet)", 15 R1B "4-Quandrant Resistor. In 2-quadrant mode, R1B shorts to the VREFB pin. In 4-quadrant mode, R1B ties to ROFSB. Do  not connect if operating in unipolar mode.", 16 RFBB (in) "Internal Matching Feedback Resistor B. Connects to external op amp for I-to-V conversion.", 17 ROFSB (in) "Bipolar Offset Resistor B. Accepts up to +/-18 V. In 2-quadrant mode, ROFSB ties to RFBB. In 4-quadrant mode, ROFSB ties to R1B and an external reference.", 18 ~{WR} (in) "Write Control Digital Input In, Active Low. Transfers shift register data to the DAC register on the rising edge.  Signal level must be =< VDD + 0.3 V.", 19 A0 (in) "Address Pin 0. Signal level must be =< VDD  + 0.3 V", 20 A1 (in) "Address Pin 1. Signal level must be =< VDD  + 0.3 V.", 21 LDAC (in) "Digital Input Load DAC Control. Signal level must be =< VDD + 0.3 V", 22 MSB (in) "Power-On Reset State. MSB = 0 corresponds to zero-scale reset; MSB = 1 corresponds to midscale reset. The  signal level must be =< VDD + 0.3 V.", 23 ~{RS} (in) "Active low resets both input and DAC registers. Resets to zero-scale if MSB = 0 and resets to midscale if MSB = 1.  Signal level must be =< VDD + 0.3 V", 24 D13 (in) "Digital Input Data Bit D13. Signal level must be =< VDD + 0.3 V.", 25 D12 (in) "Digital Input Data Bit D12. Signal level must be =< VDD + 0.3 V.", 26 D11 (in) "Digital Input Data Bit D11. Signal level must be =< VDD + 0.3 V.", 27 D10 (in) "Digital Input Data Bit D10. Signal level must be =< VDD + 0.3 V.", 28 D9 (in) "Digital Input Data Bit D9. Signal level must be =< VDD + 0.3 V.", 29 VDD (power) "Positive Power Supply Input. The specified range of operation is 2.7 V to 5.5 V.", 30 D8 (in) "Digital Input Data Bit D8. Signal level must be =< VDD + 0.3 V.", 31 D7 (in) "Digital Input Data Bit D7. Signal level must be =< VDD + 0.3 V.", 32 D6 (in) "Digital Input Data Bit D6. Signal level must be =< VDD + 0.3 V.", 33 D5 (in) "Digital Input Data Bit D5. Signal level must be =< VDD + 0.3 V.", 34 D4 (in) "Digital Input Data Bit D4. Signal level must be =< VDD + 0.3 V.", 35 D3 (in) "Digital Input Data Bit D3. Signal level must be =< VDD + 0.3 V.", 36 D2 (in) "Digital Input Data Bit D2. Signal level must be =< VDD + 0.3 V.", 37 D1 (in) "Digital Input Data Bit D1. Signal level must be =< VDD + 0.3 V.", 38 D0 (in) "Digital Input Data Bit D0. Signal level must be =< VDD + 0.3 V."